# Altium footprint library PCB1.PcbLib: 53 footprints (part 2 of 4)
Each footprint in its own frame and in the unit in brackets; x right, y up, seen from the top. Pads: shape width x height; smd on the part's side, far side on the other; paste and mask are expansions set on the pad; w line width, h text height; cw(c..) or ccw(c..) is an arc to the next point about the centre after c.
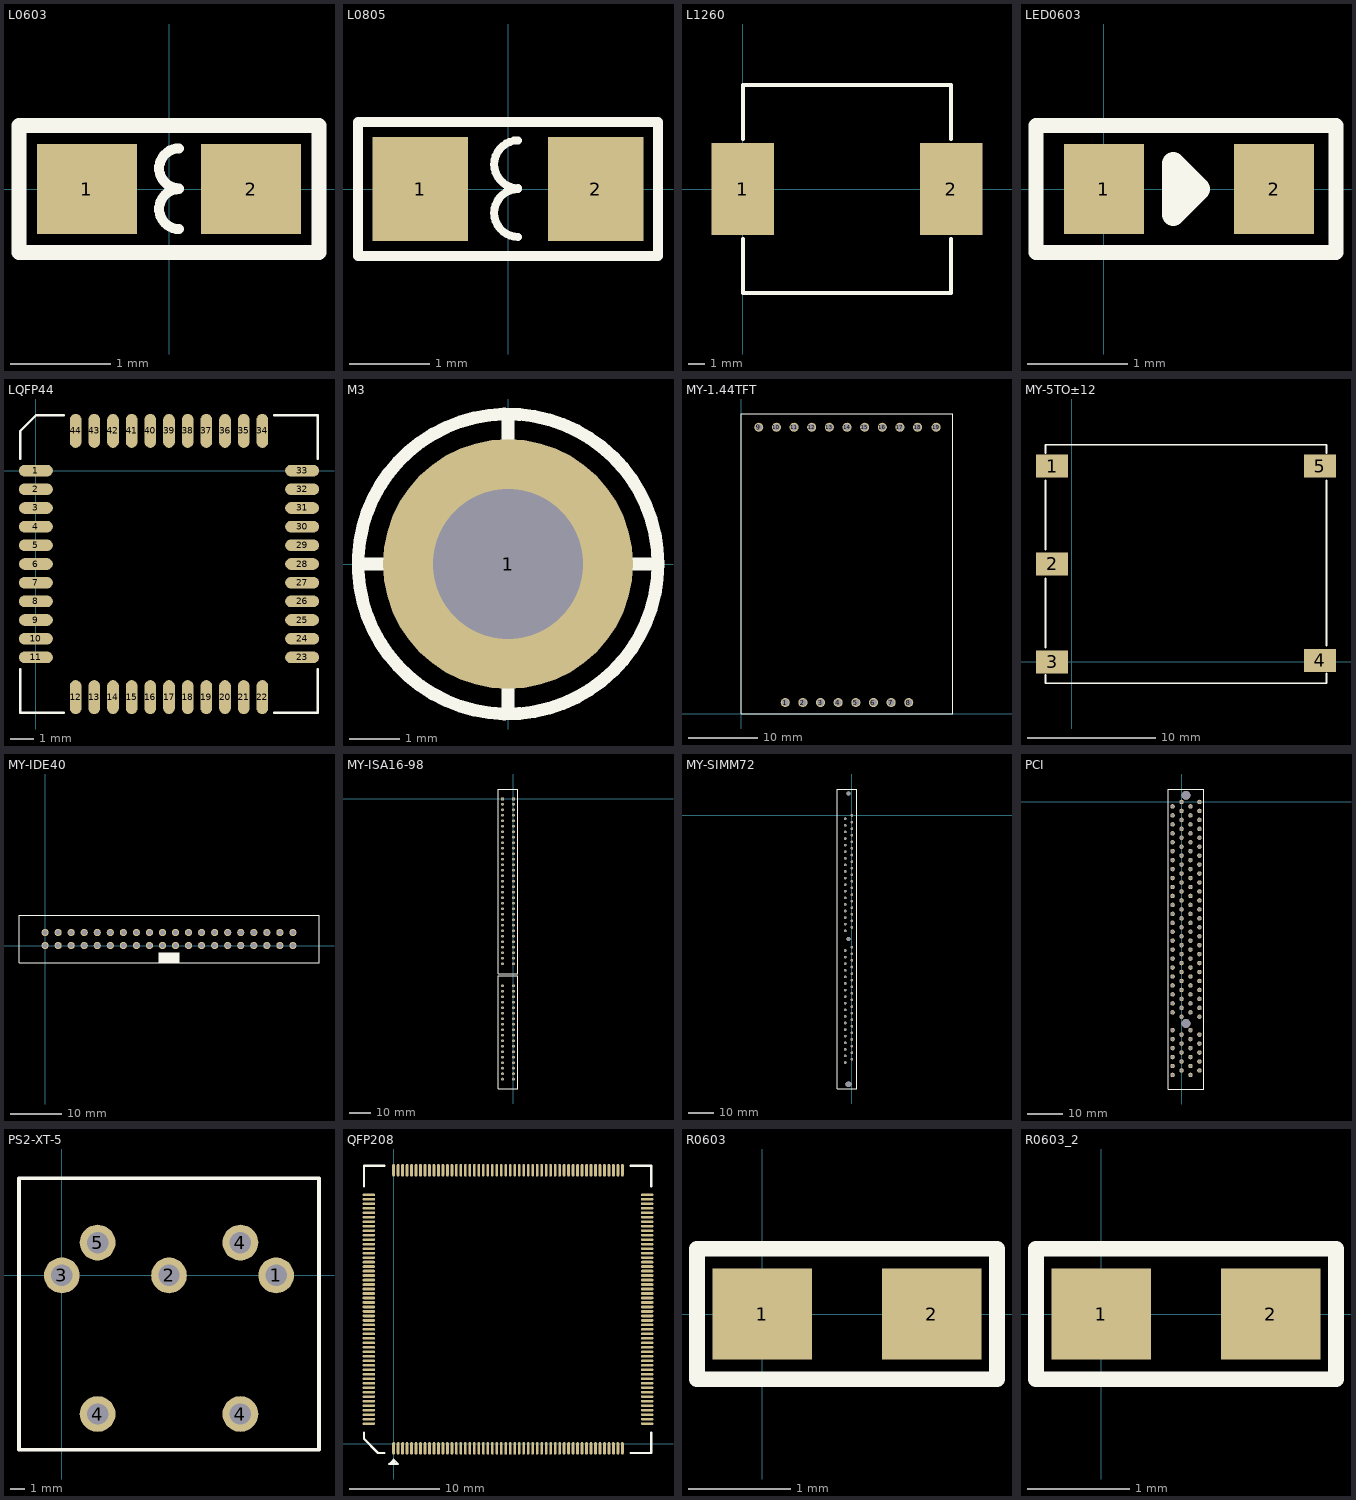
[diagram p1: the footprints below, top view; thin cyan lines are the x and y axes]

## L0603 [mm]
pads (2):
  rect 1x0.9 smd: 1(-0.82,0) 2(0.82,0)
Top Overlay:
  lines w0.1: 0.102,-0.4 cw(c0.102,-0.2) 0.102,0 ; 0.102,0.006 cw(c0.102,0.206) 0.102,0.406
  lines w0.15: -1.499,-0.635 -1.499,0.635 1.499,0.635 1.499,-0.635 -1.499,-0.635

## L0805 [mm]
pads (2):
  rect 1.2x1.3 smd: 1(-1.1,0) 2(1.1,0)
Top Overlay:
  lines w0.1: 0.127,-0.6 cw(c0.128,-0.3) 0.127,0 ; 0.127,0.01 cw(c0.128,0.31) 0.127,0.61
  lines w0.127: 0.381,0.838 1.88,0.838 1.88,-0.838 0.381,-0.838 -1.88,-0.838 -1.88,0.838 0.406,0.838

## L1260 [mil] "33uH"
pads (2):
  rect 150x220 smd: 1(0,0) 2(500,0)
Top Overlay:
  lines w10: 0,-120 0,-250 500,-250 500,-120 ; 0,120 0,250 500,250 500,120

## LED0603 [mm]
pads (2):
  rect 0.8x0.9 smd: 1(0,0) 2(1.7,0)
Top Overlay:
  lines w0.15: -0.679,-0.635 2.319,-0.635 2.319,0.635 -0.679,0.635 -0.679,-0.635
  lines w0.229: 0.693,-0.254 0.947,0 0.693,0.254 0.693,-0.254

## LQFP44 [mm]
pads (44):
  oval 1.45x0.5 smd: 1(0,0) 2(0,-0.8) 3(0,-1.6) 4(0,-2.4) 5(0,-3.2) 6(0,-4) 7(0,-4.8) 8(0,-5.6) 9(0,-6.4) 10(0,-7.2) 11(0,-8) 23(11.4,-8) 24(11.4,-7.2) 25(11.4,-6.4) 26(11.4,-5.6) 27(11.4,-4.8) 28(11.4,-4) 29(11.4,-3.2) 30(11.4,-2.4) 31(11.4,-1.6) 32(11.4,-0.8) 33(11.4,0)
  oval 0.5x1.45 smd: 12(1.7,-9.7) 13(2.5,-9.7) 14(3.3,-9.7) 15(4.1,-9.7) 16(4.9,-9.7) 17(5.7,-9.7) 18(6.5,-9.7) 19(7.3,-9.7) 20(8.1,-9.7) 21(8.9,-9.7) 22(9.7,-9.7) 34(9.7,1.7) 35(8.9,1.7) 36(8.1,1.7) 37(7.3,1.7) 38(6.5,1.7) 39(5.7,1.7) 40(4.9,1.7) 41(4.1,1.7) 42(3.3,1.7) 43(2.5,1.7) 44(1.7,1.7)
Top Overlay:
  lines w0.1: -0.675,-8.5 -0.675,-10.375 1.2,-10.375 ; -0.675,0.5 -0.675,1.7 0,2.375 1.2,2.375 ; 10.2,-10.375 12.075,-10.375 12.075,-8.5 ; 10.2,2.375 12.075,2.375 12.075,0.5

## M3 [mm]
pads (1):
  round 5 hole 3: 1(0,0)
Top Overlay:
  circle w0.254: c0,0 r3
  lines w0.254: -2.972,0 -2.515,0 ; 0,-2.997 0,-2.489 ; 0,2.464 0,2.997 ; 2.515,0 3,0

## MY-1.44TFT [mm]
pads (19):
  round 1.3 hole 1: 1(6.35,1.651) 2(8.89,1.651) 3(11.43,1.651) 4(13.97,1.651) 5(16.51,1.651) 6(19.05,1.651) 7(21.59,1.651) 8(24.13,1.651) 9(2.54,41.275) 10(5.08,41.275) 11(7.62,41.275) 12(10.16,41.275) 13(12.7,41.275) 14(15.24,41.275) 15(17.78,41.275) 16(20.32,41.275) 17(22.86,41.275) 18(25.4,41.275) 19(28.067,41.275)
Top Overlay:
  lines w0.15: 0,0 0,43.18 30.48,43.18 30.48,0 0,0

## MY-5TO±12 [mm]
pads (5):
  rect 2.5x1.8 smd: 1(-1.524,15.24) 2(-1.524,7.62) 3(-1.524,0) 4(19.304,0.127) 5(19.304,15.24)
Top Overlay:
  lines w0.15: -2.032,-1.016 -2.032,-1.651 19.812,-1.651 19.812,-0.889 ; -2.032,1.143 -2.032,6.477 ; -2.032,8.763 -2.032,14.097 ; -2.032,16.256 -2.032,16.891 19.812,16.891 19.812,16.256 ; 19.812,1.27 19.812,14.097

## MY-IDE40 [mil]
height 372.05
pads (40):
  round 55 hole 39.37: 1(0,0) 2(0,100) 3(100,0) 4(100,100) 5(200,0) 6(200,100) 7(300,0) 8(300,100) 9(400,0) 10(400,100) 11(500,0) 12(500,100) 13(600,0) 14(600,100) 15(700,0) 16(700,100) 17(800,0) 18(800,100) 19(900,0) 20(900,100) 21(1000,0) 22(1000,100) 23(1100,0) 24(1100,100) 25(1200,0) 26(1200,100) 27(1300,0) 28(1300,100) 29(1400,0) 30(1400,100) 31(1500,0) 32(1500,100) 33(1600,0) 34(1600,100) 35(1700,0) 36(1700,100) 37(1800,0) 38(1800,100) 39(1900,0) 40(1900,100)
Top Overlay:
  rectangle: 870,-129.78 1031.42,-54.97
  lines w7.87: -200,-131.1 2100,-131.1 2100,231.1 -200,231.1 -200,-131.1

## MY-ISA16-98 [mm]
pads (98):
  rect 1.27x1.27 hole 0.8: A01(0,0) B01(-5.08,0)
  round 1.27 hole 0.8: A02(0,-2.54) A03(0,-5.08) A04(0,-7.62) A05(0,-10.16) A06(0,-12.7) A07(0,-15.24) A08(0,-17.78) A09(0,-20.32) A10(0,-22.86) A11(0,-25.4) A12(0,-27.94) A13(0,-30.48) A14(0,-33.02) A15(0,-35.56) A16(0,-38.1) A17(0,-40.64) A18(0,-43.18) A19(0,-45.72) A20(0,-48.26) A21(0,-50.8) A22(0,-53.34) A23(0,-55.88) A24(0,-58.42) A25(0,-60.96) A26(0,-63.5) A27(0,-66.04) A28(0,-68.58) A29(0,-71.12) A30(0,-73.66) A31(0,-76.2) B02(-5.08,-2.54) B03(-5.08,-5.08) B04(-5.08,-7.62) B05(-5.08,-10.16) B06(-5.08,-12.7) B07(-5.08,-15.24) B08(-5.08,-17.78) B09(-5.08,-20.32) B10(-5.08,-22.86) B11(-5.08,-25.4) B12(-5.08,-27.94) B13(-5.08,-30.48) B14(-5.08,-33.02) B15(-5.08,-35.56) B16(-5.08,-38.1) B17(-5.08,-40.64) B18(-5.08,-43.18) B19(-5.08,-45.72) B20(-5.08,-48.26) B21(-5.08,-50.8) B22(-5.08,-53.34) B23(-5.08,-55.88) B24(-5.08,-58.42) B25(-5.08,-60.96) B26(-5.08,-63.5) B27(-5.08,-66.04) B28(-5.08,-68.58) B29(-5.08,-71.12) B30(-5.08,-73.66) B31(-5.08,-76.2) C1(0,-86.36) C2(0,-88.9) C3(0,-91.44) C4(0,-93.98) C5(0,-96.52) C6(0,-99.06) C7(0,-101.6) C8(0,-104.14) C9(0,-106.68) C10(0,-109.22) C11(0,-111.76) C12(0,-114.3) C13(0,-116.84) C14(0,-119.38) C15(0,-121.92) C16(0,-124.46) C17(0,-127) C18(0,-129.54) D1(-5.08,-86.36) D2(-5.08,-88.9) D3(-5.08,-91.44) D4(-5.08,-93.98) D5(-5.08,-96.52) D6(-5.08,-99.06) D7(-5.08,-101.6) D8(-5.08,-104.14) D9(-5.08,-106.68) D10(-5.08,-109.22) D11(-5.08,-111.76) D12(-5.08,-114.3) D13(-5.08,-116.84) D14(-5.08,-119.38) D15(-5.08,-121.92) D16(-5.08,-124.46) D17(-5.08,-127) D18(-5.08,-129.54)
Top Overlay:
  lines w0.254: -7.112,-134.112 -7.112,-81.788 2.032,-81.788 2.032,-134.112 -7.112,-134.112 ; -7.112,-80.772 2.032,-80.772 2.032,4.572 -7.112,4.572 -7.112,-80.772

## MY-SIMM72 [mm]
pads (72):
  round 1 hole 0.8: 1(0,0) 2(-2.54,-1.27) 3(0,-2.54) 4(-2.54,-3.81) 5(0,-5.08) 6(-2.54,-6.35) 7(0,-7.62) 8(-2.54,-8.89) 9(0,-10.16) 10(-2.54,-11.43) 11(0,-12.7) 12(-2.54,-13.97) 13(0,-15.24) 14(-2.54,-16.51) 15(0,-17.78) 16(-2.54,-19.05) 17(0,-20.32) 18(-2.54,-21.59) 19(0,-22.86) 20(-2.54,-24.13) 21(0,-25.4) 22(-2.54,-26.67) 23(0,-27.94) 24(-2.54,-29.21) 25(0,-30.48) 26(-2.54,-31.75) 27(0,-33.02) 28(-2.54,-34.29) 29(0,-35.56) 30(-2.54,-36.83) 31(0,-38.1) 32(-2.54,-39.37) 33(0,-40.64) 34(-2.54,-41.91) 35(0,-43.18) 36(-2.54,-44.45) 37(0,-50.8) 38(-2.54,-52.07) 39(0,-53.34) 40(-2.54,-54.61) 41(0,-55.88) 42(-2.54,-57.15) 43(0,-58.42) 44(-2.54,-59.69) 45(0,-60.96) 46(-2.54,-62.23) 47(0,-63.5) 48(-2.54,-64.77) 49(0,-66.04) 50(-2.54,-67.31) 51(0,-68.58) 52(-2.54,-69.85) 53(0,-71.12) 54(-2.54,-72.39) 55(0,-73.66) 56(-2.54,-74.93) 57(0,-76.2) 58(-2.54,-77.47) 59(0,-78.74) 60(-2.54,-80.01) 61(0,-81.28) 62(-2.54,-82.55) 63(0,-83.82) 64(-2.54,-85.09) 65(0,-86.36) 66(-2.54,-87.63) 67(0,-88.9) 68(-2.54,-90.17) 69(0,-91.44) 70(-2.54,-92.71) 71(0,-93.98) 72(-2.54,-95.25)
via -1.27,-103.65 diameter 2.2 hole 2.2
via -1.27,-47.625 diameter 1.6 hole 1.6
via -1.27,8.4 diameter 1.6 hole 1.6
Top Overlay:
  lines w0.15: -5.54,-105.45 1.8,-105.45 1.8,10.2 -5.54,10.2 -5.54,-105.45

## PCI [mil]
pads (122):
  round 96 hole 96 unplated: 121(50,75) 122(50,-2475)
  round 50 hole 37: A1(200,0) A2(100,-50) A3(200,-100) A4(100,-150) A5(200,-200) A6(100,-250) A7(200,-300) A8(100,-350) A9(200,-400) A10(100,-450) A11(200,-500) A12(100,-550) A13(200,-600) A14(100,-650) A15(200,-700) A16(100,-750) A17(200,-800) A18(100,-850) A19(200,-900) A20(100,-950) A21(200,-1000) A22(100,-1050) A23(200,-1100) A24(100,-1150) A25(200,-1200) A26(100,-1250) A27(200,-1300) A28(100,-1350) A29(200,-1400) A30(100,-1450) A31(200,-1500) A32(100,-1550) A33(200,-1600) A34(100,-1650) A35(200,-1700) A36(100,-1750) A37(200,-1800) A38(100,-1850) A39(200,-1900) A40(100,-1950) A41(200,-2000) A42(100,-2050) A43(200,-2100) A44(100,-2150) A45(200,-2200) A46(100,-2250) A47(200,-2300) A48(100,-2350) A49(200,-2400) A52(100,-2550) A53(200,-2600) A54(100,-2650) A55(200,-2700) A56(100,-2750) A57(200,-2800) A58(100,-2850) A59(200,-2900) A60(100,-2950) A61(200,-3000) A62(100,-3050) B1(0,0) B2(-100,-50) B3(0,-100) B4(-100,-150) B5(0,-200) B6(-100,-250) B7(0,-300) B8(-100,-350) B9(0,-400) B10(-100,-450) B11(0,-500) B12(-100,-550) B13(0,-600) B14(-100,-650) B15(0,-700) B16(-100,-750) B17(0,-800) B18(-100,-850) B19(0,-900) B20(-100,-950) B21(0,-1000) B22(-100,-1050) B23(0,-1100) B24(-100,-1150) B25(0,-1200) B26(-100,-1250) B27(0,-1300) B28(-100,-1350) B29(0,-1400) B30(-100,-1450) B31(0,-1500) B32(-100,-1550) B33(0,-1600) B34(-100,-1650) B35(0,-1700) B36(-100,-1750) B37(0,-1800) B38(-100,-1850) B39(0,-1900) B40(-100,-1950) B41(0,-2000) B42(-100,-2050) B43(0,-2100) B44(-100,-2150) B45(0,-2200) B46(-100,-2250) B47(0,-2300) B48(-100,-2350) B49(0,-2400) B52(-100,-2550) B53(0,-2600) B54(-100,-2650) B55(0,-2700) B56(-100,-2750) B57(0,-2800) B58(-100,-2850) B59(0,-2900) B60(-100,-2950) B61(0,-3000) B62(-100,-3050)
Top Overlay:
  lines w10: -150,-3207 250,-3207 250,145 -150,145 -150,-3207

## PS2-XT-5 [mm]
pads (7):
  round 2.5 hole 1.5: 1(15,0) 2(7.5,0) 3(0,0) 4(2.5,-9.7) 4(12.5,-9.7) 4(12.5,2.3) 5(2.5,2.3)
Top Overlay:
  lines w0.254: -3,-12.2 18,-12.2 18,6.8 -3,6.8 -3,-12.2

## QFP208 [mm]
pads (208):
  oval 0.3x1.4 smd: 1(0,-0.508) 2(0.5,-0.508) 3(1,-0.508) 4(1.5,-0.508) 5(2,-0.508) 6(2.5,-0.508) 7(3,-0.508) 8(3.5,-0.508) 9(4,-0.508) 10(4.5,-0.508) 11(5,-0.508) 12(5.5,-0.508) 13(6,-0.508) 14(6.5,-0.508) 15(7,-0.508) 16(7.5,-0.508) 17(8,-0.508) 18(8.5,-0.508) 19(9,-0.508) 20(9.5,-0.508) 21(10,-0.508) 22(10.5,-0.508) 23(11,-0.508) 24(11.5,-0.508) 25(12,-0.508) 26(12.5,-0.508) 27(13,-0.508) 28(13.5,-0.508) 29(14,-0.508) 30(14.5,-0.508) 31(15,-0.508) 32(15.5,-0.508) 33(16,-0.508) 34(16.5,-0.508) 35(17,-0.508) 36(17.5,-0.508) 37(18,-0.508) 38(18.5,-0.508) 39(19,-0.508) 40(19.5,-0.508) 41(20,-0.508) 42(20.5,-0.508) 43(21,-0.508) 44(21.5,-0.508) 45(22,-0.508) 46(22.5,-0.508) 47(23,-0.508) 48(23.5,-0.508) 49(24,-0.508) 50(24.5,-0.508) 51(25,-0.508) 52(25.5,-0.508) 105(25.5,30.48) 106(25,30.48) 107(24.5,30.48) 108(24,30.48) 109(23.5,30.48) 110(23,30.48) 111(22.5,30.48) 112(22,30.48) 113(21.5,30.48) 114(21,30.48) 115(20.5,30.48) 116(20,30.48) 117(19.5,30.48) 118(19,30.48) 119(18.5,30.48) 120(18,30.48) 121(17.5,30.48) 122(17,30.48) 123(16.5,30.48) 124(16,30.48) 125(15.5,30.48) 126(15,30.48) 127(14.5,30.48) 128(14,30.48) 129(13.5,30.48) 130(13,30.48) 131(12.5,30.48) 132(12,30.48) 133(11.5,30.48) 134(11,30.48) 135(10.5,30.48) 136(10,30.48) 137(9.5,30.48) 138(9,30.48) 139(8.5,30.48) 140(8,30.48) 141(7.5,30.48) 142(7,30.48) 143(6.5,30.48) 144(6,30.48) 145(5.5,30.48) 146(5,30.48) 147(4.5,30.48) 148(4,30.48) 149(3.5,30.48) 150(3,30.48) 151(2.5,30.48) 152(2,30.48) 153(1.5,30.48) 154(1,30.48) 155(0.5,30.48) 156(0,30.48)
  oval 1.4x0.3 smd: 53(28.258,2.25) 54(28.258,2.75) 55(28.258,3.25) 56(28.258,3.75) 57(28.258,4.25) 58(28.258,4.75) 59(28.258,5.25) 60(28.258,5.75) 61(28.258,6.25) 62(28.258,6.75) 63(28.258,7.25) 64(28.258,7.75) 65(28.258,8.25) 66(28.258,8.75) 67(28.258,9.25) 68(28.258,9.75) 69(28.258,10.25) 70(28.258,10.75) 71(28.258,11.25) 72(28.258,11.75) 73(28.258,12.25) 74(28.258,12.75) 75(28.258,13.25) 76(28.258,13.75) 77(28.258,14.25) 78(28.258,14.75) 79(28.258,15.25) 80(28.258,15.75) 81(28.258,16.25) 82(28.258,16.75) 83(28.258,17.25) 84(28.258,17.75) 85(28.258,18.25) 86(28.258,18.75) 87(28.258,19.25) 88(28.258,19.75) 89(28.258,20.25) 90(28.258,20.75) 91(28.258,21.25) 92(28.258,21.75) 93(28.258,22.25) 94(28.258,22.75) 95(28.258,23.25) 96(28.258,23.75) 97(28.258,24.25) 98(28.258,24.75) 99(28.258,25.25) 100(28.258,25.75) 101(28.258,26.25) 102(28.258,26.75) 103(28.258,27.25) 104(28.258,27.75) 157(-2.758,27.75) 158(-2.758,27.25) 159(-2.758,26.75) 160(-2.758,26.25) 161(-2.758,25.75) 162(-2.758,25.25) 163(-2.758,24.75) 164(-2.758,24.25) 165(-2.758,23.75) 166(-2.758,23.25) 167(-2.758,22.75) 168(-2.758,22.25) 169(-2.758,21.75) 170(-2.758,21.25) 171(-2.758,20.75) 172(-2.758,20.25) 173(-2.758,19.75) 174(-2.758,19.25) 175(-2.758,18.75) 176(-2.758,18.25) 177(-2.758,17.75) 178(-2.758,17.25) 179(-2.758,16.75) 180(-2.758,16.25) 181(-2.758,15.75) 182(-2.758,15.25) 183(-2.758,14.75) 184(-2.758,14.25) 185(-2.758,13.75) 186(-2.758,13.25) 187(-2.758,12.75) 188(-2.758,12.25) 189(-2.758,11.75) 190(-2.758,11.25) 191(-2.758,10.75) 192(-2.758,10.25) 193(-2.758,9.75) 194(-2.758,9.25) 195(-2.758,8.75) 196(-2.758,8.25) 197(-2.758,7.75) 198(-2.758,7.25) 199(-2.758,6.75) 200(-2.758,6.25) 201(-2.758,5.75) 202(-2.758,5.25) 203(-2.758,4.75) 204(-2.758,4.25) 205(-2.758,3.75) 206(-2.758,3.25) 207(-2.758,2.75) 208(-2.758,2.25)
Top Overlay:
  lines w0.203: -0.25,-2.25 0,-2 0.25,-2.25 ; 0,-2.25 0,-1.75 ; -0.5,-2.25 0,-1.75 ; -0.5,-2.25 -0.5,-2.25 ; -0.5,-2.25 0.5,-2.25 0,-1.75 ; 0,-1.75 0,-1.75
  lines w0.254: -3.302,1.27 -3.302,0.552 -1.734,-1.016 -1.016,-1.016 ; -3.302,28.702 -3.302,30.988 -1.016,30.988 ; 26.416,-1.016 28.702,-1.016 28.702,1.27 ; 26.416,30.988 28.702,30.988 28.702,28.702

## R0603 [mil]
pads (2):
  rect 38x35 smd: 1(0,0) 2(65,0)
Top Overlay:
  lines w5.91: -25,-25 90,-25 ; -25,25 90,25
  lines w6: -25,-25 -25,25 ; 90,-25 90,25

## R0603_2 [mil]
pads (2):
  rect 38x35 smd: 1(0,0) 2(65,0)
Top Overlay:
  lines w5.91: -25,-25 90,-25 ; -25,25 90,25
  lines w6: -25,-25 -25,25 ; 90,-25 90,25